# Altium footprint library Switching_Regulators_Pcb.PcbLib: 3 footprints
Each footprint in its own frame and in the unit in brackets; x right, y up, seen from the top. Pads: shape width x height; smd on the part's side, far side on the other; paste and mask are expansions set on the pad; w line width, h text height; cw(c..) or ccw(c..) is an arc to the next point about the centre after c.
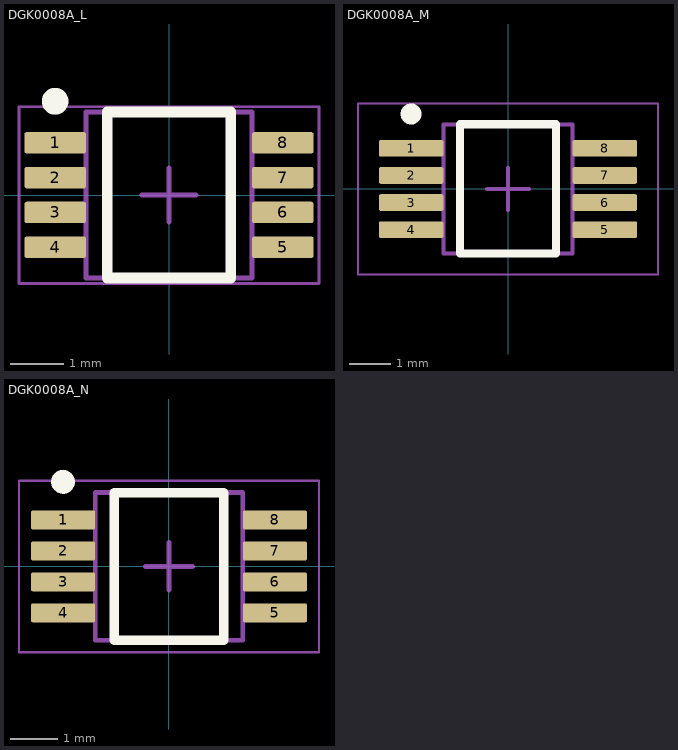
[diagram p0: the footprints below, top view; thin cyan lines are the x and y axes]

## DGK0008A_L [mm] "TSOP, 8-Leads, Body 3.1x3.1mm, Pitch 0.65mm, IPC High Density"
height 1.1
pads (8):
  rrect22% 1.15x0.4 smd: 1(-2.125,0.975) 2(-2.125,0.325) 3(-2.125,-0.325) 4(-2.125,-0.975) 5(2.125,-0.975) 6(2.125,-0.325) 7(2.125,0.325) 8(2.125,0.975)
Top Overlay:
  circle w0.25: c-2.125,1.75 r0.125
  lines w0.2: -1.15,-1.55 -1.15,1.55 1.15,1.55 1.15,-1.55 -1.15,-1.55
Mechanical 13:
  lines w0.1: -1.55,-1.55 -1.55,1.55 1.55,1.55 1.55,-1.55 -1.55,-1.55
  text ".Designator" at -1.5,-0.5 h1
Mechanical 15:
  lines w0.05: -2.8,-1.65 -2.8,1.65 2.8,1.65 2.8,-1.65 -2.8,-1.65
  lines w0.1: -0.5,0 0.5,0 ; 0,-0.5 0,0.5
3D body "MUY08A_ASM.stp": height 0.94, standoff -0.02, extent -2.451,-1.499 2.451,1.499

## DGK0008A_M [mm] "TSOP, 8-Leads, Body 3.1x3.1mm, Pitch 0.65mm, IPC Low Density"
height 1.1
pads (8):
  rrect22% 1.55x0.4 smd: 1(-2.325,0.975) 2(-2.325,0.325) 3(-2.325,-0.325) 4(-2.325,-0.975) 5(2.325,-0.975) 6(2.325,-0.325) 7(2.325,0.325) 8(2.325,0.975)
Top Overlay:
  circle w0.25: c-2.325,1.8 r0.125
  lines w0.2: -1.15,-1.55 1.15,-1.55 1.15,1.55 -1.15,1.55 -1.15,-1.55
Mechanical 13:
  lines w0.1: -1.55,-1.55 1.55,-1.55 1.55,1.55 -1.55,1.55 -1.55,-1.55
  text ".Designator" at -1.397,-0.254 h1
Mechanical 15:
  lines w0.05: -3.6,-2.05 3.6,-2.05 3.6,2.05 -3.6,2.05 -3.6,-2.05
  lines w0.1: -0.5,0 0.5,0 ; 0,-0.5 0,0.5
3D body "MUY08A_ASM.stp": height 0.94, standoff -0.02, extent -2.451,-1.499 2.451,1.499

## DGK0008A_N [mm] "TSOP, 8-Leads, Body 3.1x3.1mm, Pitch 0.65mm, IPC Medium Density"
height 1.1
pads (8):
  rrect22% 1.35x0.4 smd: 1(-2.225,0.975) 2(-2.225,0.325) 3(-2.225,-0.325) 4(-2.225,-0.975) 5(2.225,-0.975) 6(2.225,-0.325) 7(2.225,0.325) 8(2.225,0.975)
Top Overlay:
  circle w0.25: c-2.225,1.775 r0.125
  lines w0.2: -1.15,-1.55 1.15,-1.55 1.15,1.55 -1.15,1.55 -1.15,-1.55
Mechanical 13:
  lines w0.1: -1.55,-1.55 1.55,-1.55 1.55,1.55 -1.55,1.55 -1.55,-1.55
  text ".Designator" at -1.397,-0.254 h1
Mechanical 15:
  lines w0.05: -3.15,-1.8 3.15,-1.8 3.15,1.8 -3.15,1.8 -3.15,-1.8
  lines w0.1: -0.5,0 0.5,0 ; 0,-0.5 0,0.5
3D body "MUY08A_ASM.stp": height 0.94, standoff -0.02, extent -2.451,-1.499 2.451,1.499